# Altium integrated library Crystal-3225.IntLib: 1 symbol
Pins are listed as number, name and electrical type; pins without a type are passive.

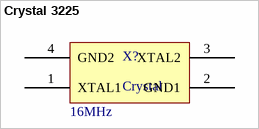
[diagram p0: symbol Crystal 3225]

## Crystal 3225
designator X?, comment Crystal
16MHz ±25ppm SMD3225-4P Oscillators ROHS; Value: 16MHz
footprint SMD-3225-4P
pins: 1 XTAL1, 2 GND1, 3 XTAL2, 4 GND2